# Altium footprint library IPB017N10N5ATMA1.PcbLib: 1 footprints
Each footprint in its own frame and in the unit in brackets; x right, y up, seen from the top. Pads: shape width x height; smd on the part's side, far side on the other; paste and mask are expansions set on the pad; w line width, h text height; cw(c..) or ccw(c..) is an arc to the next point about the centre after c.
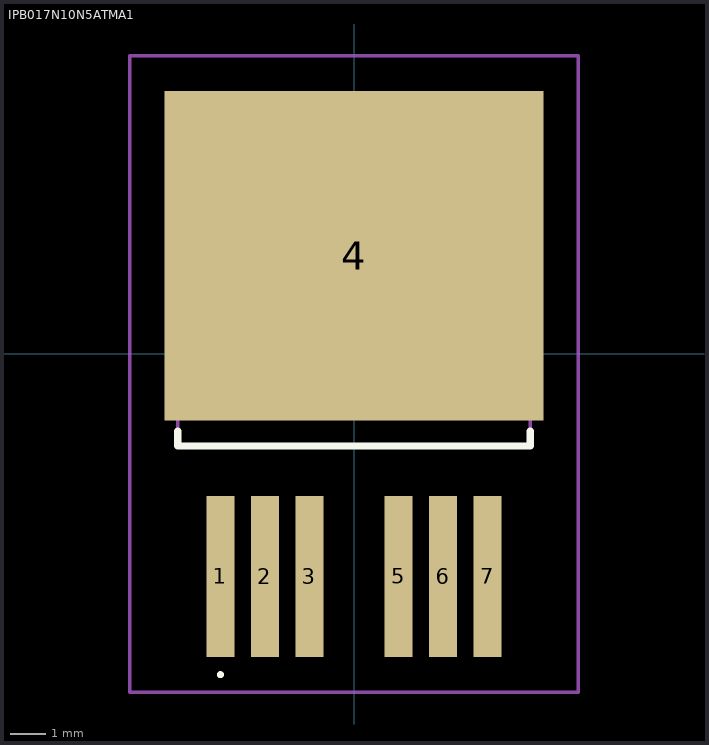
[diagram p0: the footprint, top view; thin cyan lines are the x and y axes]

## IPB017N10N5ATMA1 [mm]
pads (7):
  rect 0.8x4.6 smd: 1(-3.81,-6.35) 2(-2.54,-6.35) 3(-1.27,-6.35) 5(1.27,-6.35) 6(2.54,-6.35) 7(3.81,-6.35)
  rect 10.8x9.4 smd: 4(0,2.8)
Top Overlay:
  lines w0.1: -3.81,-9.2 -3.81,-9.2 ; -3.81,-9.2 ccw(c-3.81,-9.15) -3.81,-9.1 ; -3.81,-9.2 cw(c-3.81,-9.15) -3.81,-9.1 ; -3.81,-9.1 -3.81,-9.1
  lines w0.2: -5.027,-2.2 -5.027,-2.63 5.027,-2.63 5.027,-2.2
Mechanical 15:
  lines w0.1: -5.027,-2.63 5.027,-2.63 5.027,6.35 -5.027,6.35 -5.027,-2.63
Mechanical 20:
  lines w0.1: -6.4,-9.65 6.4,-9.65 6.4,8.5 -6.4,8.5 -6.4,-9.65